# EAGLE library part ER-OLED0.84-1 (library Sensors)
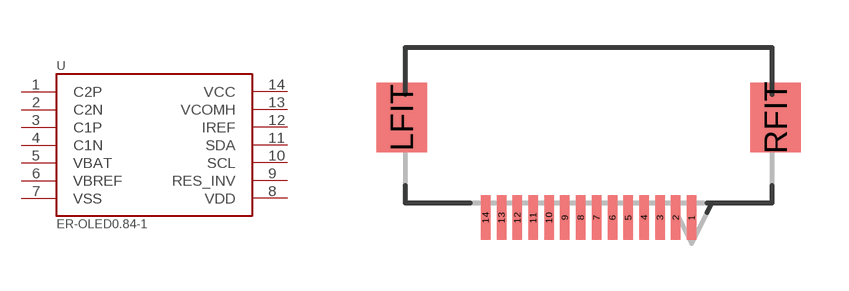
[diagram p4: symbol with the pads of MOLEX_52892-1433; footprint MOLEX_52892-1433]

Designator prefix -

## ER-OLED0.84-1  [MOLEX_52892-1433]
1  C2P
2  C2N
3  C1P
4  C1N
5  VBAT
6  VBREF
7  VSS
8  VDD
9  RES_INV
10  SCL
11  SDA
12  IREF
13  VCOMH
14  VCC

## Footprint MOLEX_52892-1433 (pad centres in mm)
smd 0.3 x 1.4: 1 3.25,2.896; 2 2.75,2.896; 3 2.25,2.896; 4 1.75,2.896; 5 1.25,2.896; 6 0.75,2.896; 7 0.25,2.896; 8 -0.25,2.896; 9 -0.75,2.896; 10 -1.25,2.896; 11 -1.75,2.896; 12 -2.25,2.896; 13 -2.75,2.896; 14 -3.25,2.896
smd 1.6 x 2.2: LFIT -5.9,6.046; RFIT 5.9,6.046